# Altium integrated library Altium_Library_Brasil.IntLib: 10 symbols
Pins are listed as number, name and electrical type; pins without a type are passive.

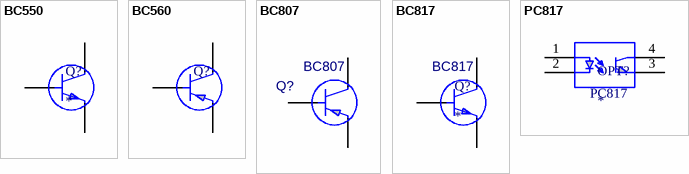
[diagram p0: symbols BC550 to PC817]

## BC550
designator Q?
Transistor PTH NPN; Emcapsulamento: PTH-TO-92; Modelo: BC550; Descrição: Transistor PTH NPN; Valor: *; Marca: *; Observação: *
footprint TO92
pins: 1 C, 2 B, 3 E

## BC560
designator Q?  (value not drawn)
Transistor PTH PNP; Emcapsulamento: PTH-TO-92; Modelo: BC550; Descrição: Transistor PTH PNP; Valor: *; Marca: *
footprint TO92
pins: 1 C, 2 B, 3 E

## BC807
designator Q?
Transistor SMD PNP; Emcapsulamento: SMD-SOT-23; Descrição: Transistor SMD PNP; Valor: *; Marca: *; Observação: *; Modelo: BC807
footprint SOT23 (Transistor)
pins: 1 B, 2 E, 3 C

## BC817
designator Q?  Modelo: BC817
Transistor SMD NPN; Descrição: Transistor NPN; Emcapsulamento: SMD-SOT-23; Valor: *; Marca: *; Observação: *
footprint SOT23 (Transistor)
pins: 1 B, 2 E, 3 C

## PC817
designator OPT?  Modelo: PC817
OptoAcoplador 4 terminais; Emcapsulamento: SMD; Descrição: OptoAcoplador 4 Terminais; Valor: *; Marca: *; Observação: *
footprint PC817_SMD
footprint PC817_PTH
pins: 1 A, 2 K, 3 EMISSOR, 4 COLETOR


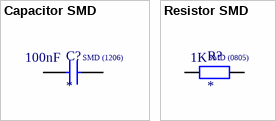
[diagram p1: symbols Capacitor SMD to Resistor SMD]

## Capacitor SMD
designator C?  Valor: 100nF  Emcapsulamento: SMD (1206)
Capacitor SMD; Descrição: Capacitor SMD; Marca: *; Modelo: *; Observação: *
footprint CAP_0603
footprint CAP_0805
footprint CAP_1206
pins: 1, 2

## Resistor SMD
designator R?  Valor: 1K  Emcapsulamento: SMD (0805)
Resistor SMD; Descrição: Resistor SMD 5%; Marca: *; Modelo: *; Observação: *
footprint RES_0603
footprint RES_0805
footprint RES_1206
pins: 1, 2


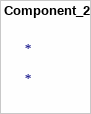
[diagram p2: symbol Component_2]

## Component_2
designator *


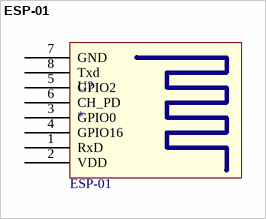
[diagram p3: symbol ESP-01]

## ESP-01
designator U?  Modelo: ESP-01
Modulo Wi-Fi ESP01; Descrição: Modulo ESP-01; Emcapsulamento: PTH; Valor: *; Marca: *; Observação: *
footprint ESP8266 ESP-01
pins: 1 RxD, 2 VDD, 3 GPIO0, 4 GPIO16, 5 GPIO2, 6 CH_PD, 7 GND, 8 Txd


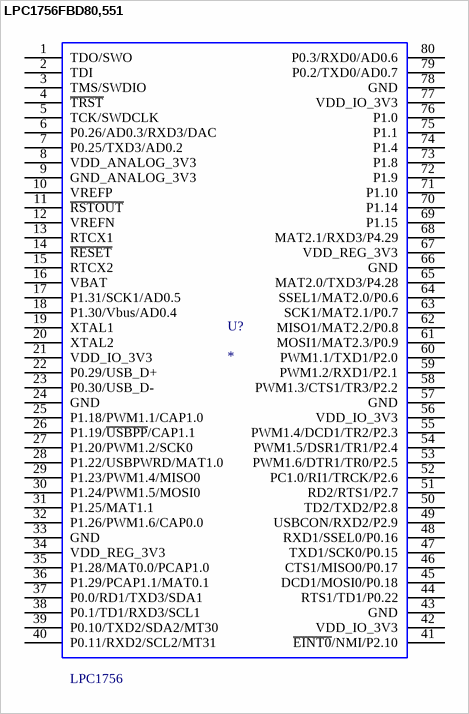
[diagram p4: symbol LPC1756FBD80,551]

## LPC1756FBD80,551
designator U?  Valor: LPC1756
Microcontrolador ARM Cortex M3; Descrição: Microntrolador ARM Cortex M3; Emcapsulamento: SMD-LQFP80; Marca: NXP; Modelo: LPC1756FBD80,551; Observação: *
footprint QFP80Pins
pins: 1 TDO/SWO, 2 TDI, 3 TMS/SWDIO, 4 ~{TRST}, 5 TCK/SWDCLK, 6 P0.26/AD0.3/RXD3/DAC, 7 P0.25/TXD3/AD0.2, 8 VDD_ANALOG_3V3, 9 GND_ANALOG_3V3, 10 VREFP, 11 ~{RSTOUT}, 12 VREFN, 13 RTCX1, 14 ~{RESET}, 15 RTCX2, 16 VBAT, 17 P1.31/SCK1/AD0.5, 18 P1.30/Vbus/AD0.4, 19 XTAL1, 20 XTAL2, 21 VDD_IO_3V3, 22 P0.29/USB_D+, 23 P0.30/USB_D-, 24 GND, 25 P1.18/PWM1.1/CAP1.0, 26 P1.19/~{USBPP}/CAP1.1, 27 P1.20/PWM1.2/SCK0, 28 P1.22/USBPWRD/MAT1.0, 29 P1.23/PWM1.4/MISO0, 30 P1.24/PWM1.5/MOSI0, 31 P1.25/MAT1.1, 32 P1.26/PWM1.6/CAP0.0, 33 GND, 34 VDD_REG_3V3, 35 P1.28/MAT0.0/PCAP1.0, 36 P1.29/PCAP1.1/MAT0.1, 37 P0.0/RD1/TXD3/SDA1, 38 P0.1/TD1/RXD3/SCL1, 39 P0.10/TXD2/SDA2/MT30, 40 P0.11/RXD2/SCL2/MT31, 41 ~{EINT0}/NMI/P2.10, 42 VDD_IO_3V3, 43 GND, 44 RTS1/TD1/P0.22, 45 DCD1/MOSI0/P0.18, 46 CTS1/MISO0/P0.17, 47 TXD1/SCK0/P0.15, 48 RXD1/SSEL0/P0.16, 49 USBCON/RXD2/P2.9, 50 TD2/TXD2/P2.8, 51 RD2/RTS1/P2.7, 52 PC1.0/RI1/TRCK/P2.6, 53 PWM1.6/DTR1/TR0/P2.5, 54 PWM1.5/DSR1/TR1/P2.4, 55 PWM1.4/DCD1/TR2/P2.3, 56 VDD_IO_3V3, 57 GND, 58 PWM1.3/CTS1/TR3/P2.2, 59 PWM1.2/RXD1/P2.1, 60 PWM1.1/TXD1/P2.0, 61 MOSI1/MAT2.3/P0.9, 62 MISO1/MAT2.2/P0.8, 63 SCK1/MAT2.1/P0.7, 64 SSEL1/MAT2.0/P0.6, 65 MAT2.0/TXD3/P4.28, 66 GND, 67 VDD_REG_3V3, 68 MAT2.1/RXD3/P4.29, 69 P1.15, 70 P1.14, 71 P1.10, 72 P1.9, 73 P1.8, 74 P1.4, 75 P1.1, 76 P1.0, 77 VDD_IO_3V3, 78 GND, 79 P0.2/TXD0/AD0.7, 80 P0.3/RXD0/AD0.6